# Altium schematic symbol library Power_MOSFET.SchLib: 2 symbols
Pins are listed as number, name and electrical type; pins without a type are passive.

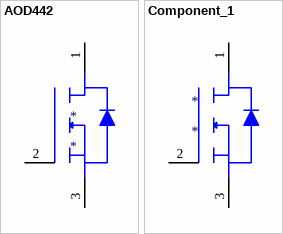
[diagram p0: symbols AOD442 to Component_1]

## AOD442
designator *
pins: 1, 2, 3

## Component_1
designator *
pins: 1, 2, 3